# Altium footprint library FX8-100S-SV.PcbLib: 1 footprints
Each footprint in its own frame and in the unit in brackets; x right, y up, seen from the top. Pads: shape width x height; smd on the part's side, far side on the other; paste and mask are expansions set on the pad; w line width, h text height; cw(c..) or ccw(c..) is an arc to the next point about the centre after c.
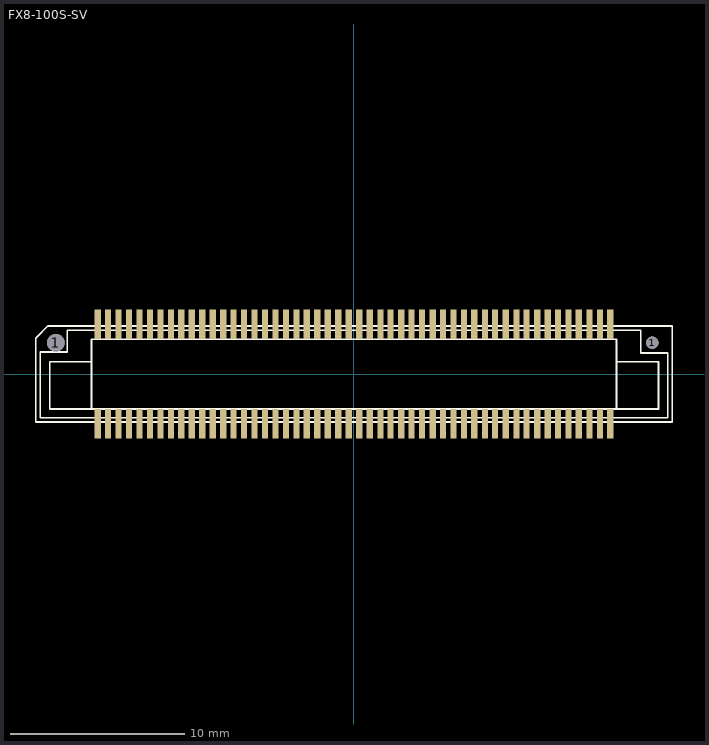
[diagram p0: the footprint, top view; thin cyan lines are the x and y axes]

## FX8-100S-SV [mil]
pads (102):
  round 40 hole 40: 1(-673.23,71)
  rect 14x67 smd: 1(-578.74,113) 2(-578.74,-112.2) 3(-555.12,113) 4(-555.12,-112.2) 5(-531.5,113) 6(-531.5,-112.2) 7(-507.87,113) 8(-507.87,-112.2) 9(-484.25,113) 10(-484.25,-112.2) 11(-460.63,113) 12(-460.63,-112.2) 13(-437.01,113) 14(-437.01,-112.2) 15(-413.39,113) 16(-413.39,-112.2) 17(-389.76,113) 18(-389.76,-112.2) 19(-366.14,113) 20(-366.14,-112.2) 21(-342.52,113) 22(-342.52,-112.2) 23(-318.9,113) 24(-318.9,-112.2) 25(-295.28,113) 26(-295.28,-112.2) 27(-271.65,113) 28(-271.65,-112.2) 29(-248.03,113) 30(-248.03,-112.2) 31(-224.41,113) 32(-224.41,-112.2) 33(-200.79,113) 34(-200.79,-112.2) 35(-177.17,113) 36(-177.17,-112.2) 37(-153.54,113) 38(-153.54,-112.2) 39(-129.92,113) 40(-129.92,-112.2) 41(-106.3,113) 42(-106.3,-112.2) 43(-82.68,113) 44(-82.68,-112.2) 45(-59.06,113) 46(-59.06,-112.2) 47(-35.43,113) 48(-35.43,-112.2) 49(-11.81,113) 50(-11.81,-112.2) 51(12,113) 52(12,-112.2) 53(36,113) 54(36,-112.2) 55(60,113) 56(60,-112.2) 57(83,113) 58(83,-112.2) 59(107,113) 60(107,-112.2) 61(130,113) 62(130,-112.2) 63(154,113) 64(154,-112.2) 65(178,113) 66(178,-112.2) 67(201,113) 68(201,-112.2) 69(225,113) 70(225,-112.2) 71(249,113) 72(249,-112.2) 73(272,113) 74(272,-112.2) 75(296,113) 76(296,-112.2) 77(319,113) 78(319,-112.2) 79(343,113) 80(343,-112.2) 81(367,113) 82(367,-112.2) 83(390,113) 84(390,-112.2) 85(414,113) 86(414,-112.2) 87(438,113) 88(438,-112.2) 89(461,113) 90(461,-112.2) 91(485,113) 92(485,-112.2) 93(508,113) 94(508,-112.2) 95(532,113) 96(532,-112.2) 97(556,113) 98(556,-112.2) 99(579,113) 100(579,-112.2)
  round 28 hole 28: 1(674,71)
Top Overlay:
  lines w4: -594.49,-78.74 -687.01,-78.74 -687.01,28 -594.49,28 ; 595,28 688,28 688,-78.74 593,-78.74 ; 593,-78.74 -592.52,-78.74 -592.52,79 593,79 593,-78.74 ; -718.5,-108.27 -718.5,81 -690.94,109 719,109 719,-108.27 -718.5,-108.27 ; -708.66,-98.43 -708.66,50 -647.64,50 -647.64,99 648,99 648,48 709,48 709,-98.43 -708.66,-98.43